# Altium integrated library B2B-XH-A_LF__SN_.IntLib: 1 symbol
Pins are listed as number, name and electrical type; pins without a type are passive.

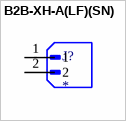
[diagram p0: symbol B2B-XH-A(LF)(SN)]

## B2B-XH-A(LF)(SN)
designator J?
Connector Header Through Hole 2 position 0.098 (2.50mm); MF: JST Sales America Inc.; MP: B2B-XH-A(LF)(SN); SnapEDA_Link: https://www.snapeda.com/parts/B2B-XH-A(LF)(SN)/JST+Sales+America+Inc./view-part/?ref=snap; Package: None; Value: *; Check_prices: https://www.snapeda.com/parts/B2B-XH-A(LF)(SN)/JST+Sales+America+Inc./view-part/?ref=eda
footprint JST_B2B-XH-A(LF)(SN)
pins: 1, 2